# Altium footprint library XAL7070.PcbLib: 1 footprints
Each footprint in its own frame and in the unit in brackets; x right, y up, seen from the top. Pads: shape width x height; smd on the part's side, far side on the other; paste and mask are expansions set on the pad; w line width, h text height; cw(c..) or ccw(c..) is an arc to the next point about the centre after c.
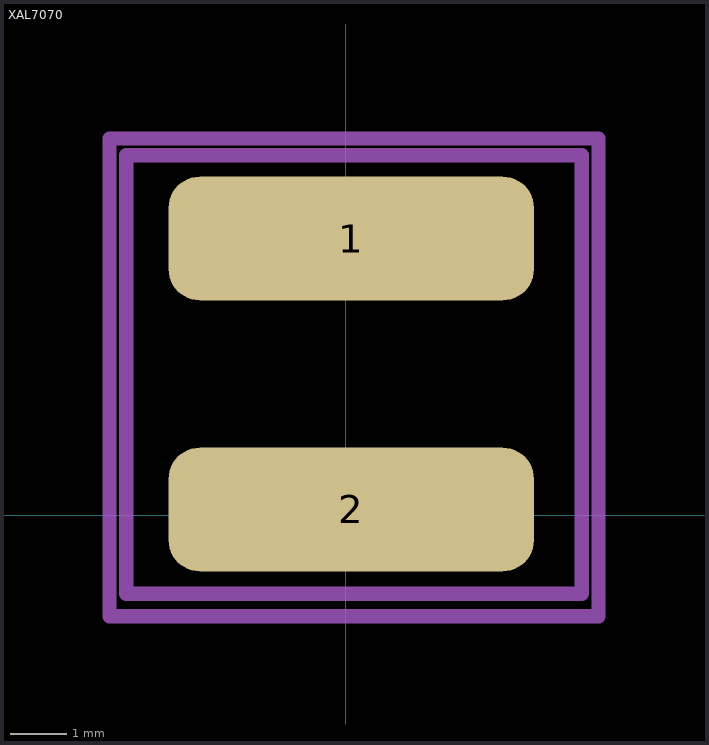
[diagram p0: the footprint, top view; thin cyan lines are the x and y axes]

## XAL7070 [mm]
pads (2):
  rrect50% 6.5x2.2 smd mask+0.102: 1(0.1,4.92)
  rrect50% 6.5x2.2 smd mask+0.07: 2(0.1,0.1)
Top Assembly:
  lines w0.254: -3.9,-1.4 -3.9,6.4 4.2,6.4 4.2,-1.4 -3.9,-1.4
Top Courtyard:
  lines w0.254: -4.2,-1.8 -4.2,6.7 4.5,6.7 4.5,-1.8 -4.2,-1.8
3D body "Coilcraft-XAL7070.STEP": height 7.1, standoff 0.1, extent -3.873,-1.35 4.127,6.35